# Altium schematic symbol library INMP441.SchLib: 1 symbol
Pins are listed as number, name and electrical type; pins without a type are passive.

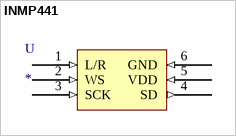
[diagram p0: symbol INMP441]

## INMP441
designator U  (no BOM)
pins: 1 L/R (in), 2 WS (in), 3 SCK (in), 4 SD (out), 5 VDD (in), 6 GND (in)